# Altium footprint library DWM3001C.PcbLib: 1 footprints
Each footprint in its own frame and in the unit in brackets; x right, y up, seen from the top. Pads: shape width x height; smd on the part's side, far side on the other; paste and mask are expansions set on the pad; w line width, h text height; cw(c..) or ccw(c..) is an arc to the next point about the centre after c.
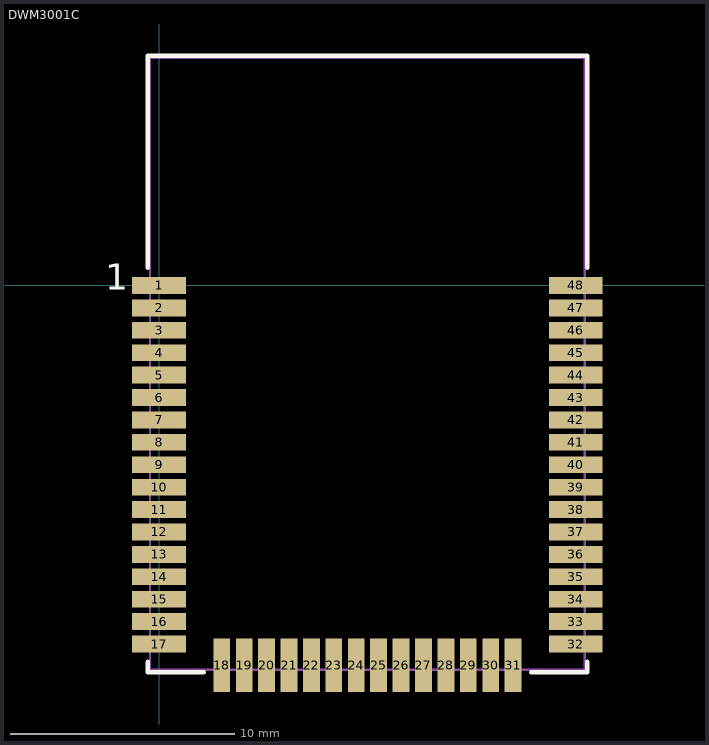
[diagram p0: the footprint, top view; thin cyan lines are the x and y axes]

## DWM3001C [mm]
height 3.4
pads (48):
  rect 2.4x0.75 smd: 1(0,0) 2(0,-1) 3(0,-2) 4(0,-3) 5(0,-4) 6(0,-5) 7(0,-6) 8(0,-7) 9(0,-8) 10(0,-9) 11(0,-10) 12(0,-11) 13(0,-12) 14(0,-13) 15(0,-14) 16(0,-15) 17(0,-16) 32(18.6,-16) 33(18.6,-15) 34(18.6,-14) 35(18.6,-13) 36(18.6,-12) 37(18.6,-11) 38(18.6,-10) 39(18.6,-9) 40(18.6,-8) 41(18.6,-7) 42(18.6,-6) 43(18.6,-5) 44(18.6,-4) 45(18.6,-3) 46(18.6,-2) 47(18.6,-1) 48(18.6,0)
  rect 0.75x2.4 smd: 18(2.8,-16.95) 19(3.8,-16.95) 20(4.8,-16.95) 21(5.8,-16.95) 22(6.8,-16.95) 23(7.8,-16.95) 24(8.8,-16.95) 25(9.8,-16.95) 26(10.8,-16.95) 27(11.8,-16.95) 28(12.8,-16.95) 29(13.8,-16.95) 30(14.8,-16.95) 31(15.8,-16.95)
Top Overlay:
  lines w0.2: -0.5,-16.8 -0.5,-17.25 2,-17.25 ; -0.5,0.8 -0.5,10.25 19.1,10.25 19.1,0.8 ; 16.6,-17.25 19.1,-17.25 19.1,-16.8
  text "1" at -2.4,-0.6 h2
Mechanical 13:
  lines w0.1: -0.4,-17.15 19,-17.15 19,10.15 -0.4,10.15 -0.4,-17.15
3D body "DWM3001C.STEP": height 3.4, standoff 0, extent -0.4,-17.15 19,10.15